# Altium footprint library Connector_Phoenix_MSTB.PcbLib: 180 footprints (part 4 of 12)
Each footprint in its own frame and in the unit in brackets; x right, y up, seen from the top. Pads: shape width x height; smd on the part's side, far side on the other; paste and mask are expansions set on the pad; w line width, h text height; cw(c..) or ccw(c..) is an arc to the next point about the centre after c.
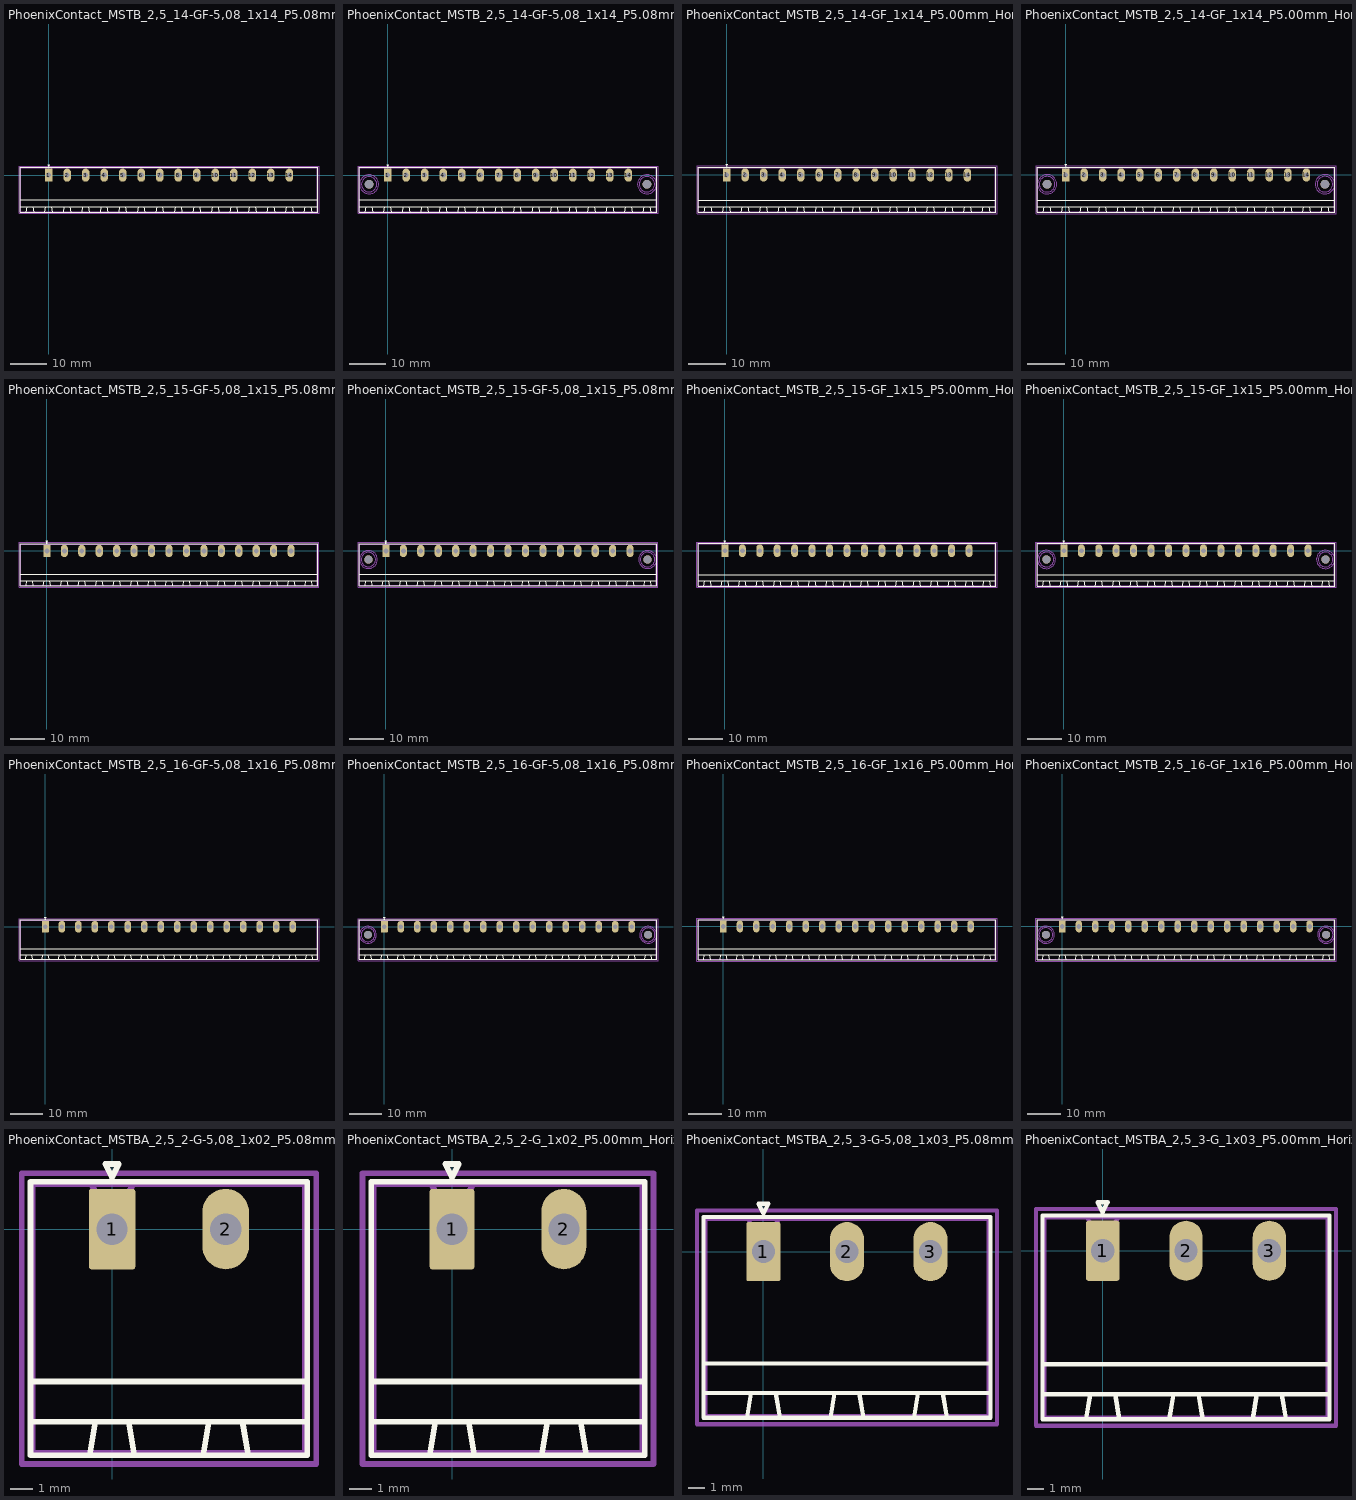
[diagram p3: the footprints below, top view; thin cyan lines are the x and y axes]

## PhoenixContact_MSTB_2,5_14-GF-5,08_1x14_P5.08mm_Horizontal_ThreadedFlange [mm]
pads (14):
  rrect12% 2.08x3.6 hole 1.4: 1(0,0)
  rrect100% 2.08x3.6 hole 1.4: 2(5.08,0) 3(10.16,0) 4(15.24,0) 5(20.32,0) 6(25.4,0) 7(30.48,0) 8(35.56,0) 9(40.64,0) 10(45.72,0) 11(50.8,0) 12(55.88,0) 13(60.96,0) 14(66.04,0)
F.SilkS:
  lines w0.254: -7.73,-10.11 73.77,-10.11 73.77,2.11 -7.73,2.11 -7.73,-10.11 ; -7.73,-8.61 73.77,-8.61 73.77,-6.81 -7.73,-6.81 -7.73,-8.61 ; -6.08,-10.11 -5.83,-8.61 -4.33,-8.61 -4.08,-10.11 -6.08,-10.11 ; -1,-10.11 -0.75,-8.61 0.75,-8.61 1,-10.11 -1,-10.11 ; -0.3,2.91 0,2.31 0.3,2.91 -0.3,2.91 ; 4.08,-10.11 4.33,-8.61 5.83,-8.61 6.08,-10.11 4.08,-10.11 ; 9.16,-10.11 9.41,-8.61 10.91,-8.61 11.16,-10.11 9.16,-10.11 ; 14.24,-10.11 14.49,-8.61 15.99,-8.61 16.24,-10.11 14.24,-10.11 ; 19.32,-10.11 19.57,-8.61 21.07,-8.61 21.32,-10.11 19.32,-10.11 ; 24.4,-10.11 24.65,-8.61 26.15,-8.61 26.4,-10.11 24.4,-10.11 ; 29.48,-10.11 29.73,-8.61 31.23,-8.61 31.48,-10.11 29.48,-10.11 ; 34.56,-10.11 34.81,-8.61 36.31,-8.61 36.56,-10.11 34.56,-10.11 ; 39.64,-10.11 39.89,-8.61 41.39,-8.61 41.64,-10.11 39.64,-10.11 ; 44.72,-10.11 44.97,-8.61 46.47,-8.61 46.72,-10.11 44.72,-10.11 ; 49.8,-10.11 50.05,-8.61 51.55,-8.61 51.8,-10.11 49.8,-10.11 ; 54.88,-10.11 55.13,-8.61 56.63,-8.61 56.88,-10.11 54.88,-10.11 ; 59.96,-10.11 60.21,-8.61 61.71,-8.61 61.96,-10.11 59.96,-10.11 ; 65.04,-10.11 65.29,-8.61 66.79,-8.61 67.04,-10.11 65.04,-10.11 ; 70.12,-10.11 70.37,-8.61 71.87,-8.61 72.12,-10.11 70.12,-10.11
Top Assembly:
  lines w0.254: -0.95,2 0,0.5 0.95,2 ; -7.62,-10 73.66,-10 73.66,2 -7.62,2 -7.62,-10
  text "'.Designator'" at 28.973,0.46 h1
Top Courtyard:
  lines w0.254: -8.13,-10.5 74.16,-10.5 74.16,2.5 -8.13,2.5 -8.13,-10.5
Top Designator:
  text ".Designator" at 25.397,-4.303 h1.52

## PhoenixContact_MSTB_2,5_14-GF-5,08_1x14_P5.08mm_Horizontal_ThreadedFlange_MountHole [mm]
pads (16):
  rrect12% 2.08x3.6 hole 1.4: 1(0,0)
  rrect100% 2.08x3.6 hole 1.4: 2(5.08,0) 3(10.16,0) 4(15.24,0) 5(20.32,0) 6(25.4,0) 7(30.48,0) 8(35.56,0) 9(40.64,0) 10(45.72,0) 11(50.8,0) 12(55.88,0) 13(60.96,0) 14(66.04,0)
  round 2.4 hole 2.4: Un1(-5.08,-2.5) Un2(71.12,-2.5)
F.SilkS:
  lines w0.254: -7.73,-10.11 73.77,-10.11 73.77,2.11 -7.73,2.11 -7.73,-10.11 ; -7.73,-8.61 73.77,-8.61 73.77,-6.81 -7.73,-6.81 -7.73,-8.61 ; -6.08,-10.11 -5.83,-8.61 -4.33,-8.61 -4.08,-10.11 -6.08,-10.11 ; -1,-10.11 -0.75,-8.61 0.75,-8.61 1,-10.11 -1,-10.11 ; -0.3,2.91 0,2.31 0.3,2.91 -0.3,2.91 ; 4.08,-10.11 4.33,-8.61 5.83,-8.61 6.08,-10.11 4.08,-10.11 ; 9.16,-10.11 9.41,-8.61 10.91,-8.61 11.16,-10.11 9.16,-10.11 ; 14.24,-10.11 14.49,-8.61 15.99,-8.61 16.24,-10.11 14.24,-10.11 ; 19.32,-10.11 19.57,-8.61 21.07,-8.61 21.32,-10.11 19.32,-10.11 ; 24.4,-10.11 24.65,-8.61 26.15,-8.61 26.4,-10.11 24.4,-10.11 ; 29.48,-10.11 29.73,-8.61 31.23,-8.61 31.48,-10.11 29.48,-10.11 ; 34.56,-10.11 34.81,-8.61 36.31,-8.61 36.56,-10.11 34.56,-10.11 ; 39.64,-10.11 39.89,-8.61 41.39,-8.61 41.64,-10.11 39.64,-10.11 ; 44.72,-10.11 44.97,-8.61 46.47,-8.61 46.72,-10.11 44.72,-10.11 ; 49.8,-10.11 50.05,-8.61 51.55,-8.61 51.8,-10.11 49.8,-10.11 ; 54.88,-10.11 55.13,-8.61 56.63,-8.61 56.88,-10.11 54.88,-10.11 ; 59.96,-10.11 60.21,-8.61 61.71,-8.61 61.96,-10.11 59.96,-10.11 ; 65.04,-10.11 65.29,-8.61 66.79,-8.61 67.04,-10.11 65.04,-10.11 ; 70.12,-10.11 70.37,-8.61 71.87,-8.61 72.12,-10.11 70.12,-10.11
B.SilkS:
  circle w0.254: c71.12,-2.5 r2.21
  circle w0.254: c-5.08,-2.5 r2.21
Top Assembly:
  lines w0.254: -0.95,2 0,0.5 0.95,2 ; -7.62,-10 73.66,-10 73.66,2 -7.62,2 -7.62,-10
  text "'.Designator'" at 28.973,0.46 h1
Bottom Assembly:
  circle w0.254: c71.12,-2.5 r2.1
  circle w0.254: c-5.08,-2.5 r2.1
Top Courtyard:
  lines w0.254: -8.13,-10.5 74.16,-10.5 74.16,2.5 -8.13,2.5 -8.13,-10.5
Bottom Courtyard:
  circle w0.254: c71.12,-2.5 r2.6
  circle w0.254: c-5.08,-2.5 r2.6
Top Designator:
  text ".Designator" at 25.397,-4.303 h1.52

## PhoenixContact_MSTB_2,5_14-GF_1x14_P5.00mm_Horizontal_ThreadedFlange [mm]
pads (14):
  rrect12% 2x3.6 hole 1.4: 1(0,0)
  rrect100% 2x3.6 hole 1.4: 2(5,0) 3(10,0) 4(15,0) 5(20,0) 6(25,0) 7(30,0) 8(35,0) 9(40,0) 10(45,0) 11(50,0) 12(55,0) 13(60,0) 14(65,0)
F.SilkS:
  lines w0.254: -7.61,-10.11 72.61,-10.11 72.61,2.11 -7.61,2.11 -7.61,-10.11 ; -7.61,-8.61 72.61,-8.61 72.61,-6.81 -7.61,-6.81 -7.61,-8.61 ; -6,-10.11 -5.75,-8.61 -4.25,-8.61 -4,-10.11 -6,-10.11 ; -1,-10.11 -0.75,-8.61 0.75,-8.61 1,-10.11 -1,-10.11 ; -0.3,2.91 0,2.31 0.3,2.91 -0.3,2.91 ; 4,-10.11 4.25,-8.61 5.75,-8.61 6,-10.11 4,-10.11 ; 9,-10.11 9.25,-8.61 10.75,-8.61 11,-10.11 9,-10.11 ; 14,-10.11 14.25,-8.61 15.75,-8.61 16,-10.11 14,-10.11 ; 19,-10.11 19.25,-8.61 20.75,-8.61 21,-10.11 19,-10.11 ; 24,-10.11 24.25,-8.61 25.75,-8.61 26,-10.11 24,-10.11 ; 29,-10.11 29.25,-8.61 30.75,-8.61 31,-10.11 29,-10.11 ; 34,-10.11 34.25,-8.61 35.75,-8.61 36,-10.11 34,-10.11 ; 39,-10.11 39.25,-8.61 40.75,-8.61 41,-10.11 39,-10.11 ; 44,-10.11 44.25,-8.61 45.75,-8.61 46,-10.11 44,-10.11 ; 49,-10.11 49.25,-8.61 50.75,-8.61 51,-10.11 49,-10.11 ; 54,-10.11 54.25,-8.61 55.75,-8.61 56,-10.11 54,-10.11 ; 59,-10.11 59.25,-8.61 60.75,-8.61 61,-10.11 59,-10.11 ; 64,-10.11 64.25,-8.61 65.75,-8.61 66,-10.11 64,-10.11 ; 69,-10.11 69.25,-8.61 70.75,-8.61 71,-10.11 69,-10.11
Top Assembly:
  lines w0.254: -0.95,2 0,0.5 0.95,2 ; -7.5,-10 72.5,-10 72.5,2 -7.5,2 -7.5,-10
  text "'.Designator'" at 28.453,0.46 h1
Top Courtyard:
  lines w0.254: -8,-10.5 73,-10.5 73,2.5 -8,2.5 -8,-10.5
Top Designator:
  text ".Designator" at 24.882,-4.303 h1.52

## PhoenixContact_MSTB_2,5_14-GF_1x14_P5.00mm_Horizontal_ThreadedFlange_MountHole [mm]
pads (16):
  rrect12% 2x3.6 hole 1.4: 1(0,0)
  rrect100% 2x3.6 hole 1.4: 2(5,0) 3(10,0) 4(15,0) 5(20,0) 6(25,0) 7(30,0) 8(35,0) 9(40,0) 10(45,0) 11(50,0) 12(55,0) 13(60,0) 14(65,0)
  round 2.4 hole 2.4: Un1(-5,-2.5) Un2(70,-2.5)
F.SilkS:
  lines w0.254: -7.61,-10.11 72.61,-10.11 72.61,2.11 -7.61,2.11 -7.61,-10.11 ; -7.61,-8.61 72.61,-8.61 72.61,-6.81 -7.61,-6.81 -7.61,-8.61 ; -6,-10.11 -5.75,-8.61 -4.25,-8.61 -4,-10.11 -6,-10.11 ; -1,-10.11 -0.75,-8.61 0.75,-8.61 1,-10.11 -1,-10.11 ; -0.3,2.91 0,2.31 0.3,2.91 -0.3,2.91 ; 4,-10.11 4.25,-8.61 5.75,-8.61 6,-10.11 4,-10.11 ; 9,-10.11 9.25,-8.61 10.75,-8.61 11,-10.11 9,-10.11 ; 14,-10.11 14.25,-8.61 15.75,-8.61 16,-10.11 14,-10.11 ; 19,-10.11 19.25,-8.61 20.75,-8.61 21,-10.11 19,-10.11 ; 24,-10.11 24.25,-8.61 25.75,-8.61 26,-10.11 24,-10.11 ; 29,-10.11 29.25,-8.61 30.75,-8.61 31,-10.11 29,-10.11 ; 34,-10.11 34.25,-8.61 35.75,-8.61 36,-10.11 34,-10.11 ; 39,-10.11 39.25,-8.61 40.75,-8.61 41,-10.11 39,-10.11 ; 44,-10.11 44.25,-8.61 45.75,-8.61 46,-10.11 44,-10.11 ; 49,-10.11 49.25,-8.61 50.75,-8.61 51,-10.11 49,-10.11 ; 54,-10.11 54.25,-8.61 55.75,-8.61 56,-10.11 54,-10.11 ; 59,-10.11 59.25,-8.61 60.75,-8.61 61,-10.11 59,-10.11 ; 64,-10.11 64.25,-8.61 65.75,-8.61 66,-10.11 64,-10.11 ; 69,-10.11 69.25,-8.61 70.75,-8.61 71,-10.11 69,-10.11
B.SilkS:
  circle w0.254: c70,-2.5 r2.21
  circle w0.254: c-5,-2.5 r2.21
Top Assembly:
  lines w0.254: -0.95,2 0,0.5 0.95,2 ; -7.5,-10 72.5,-10 72.5,2 -7.5,2 -7.5,-10
  text "'.Designator'" at 28.453,0.46 h1
Bottom Assembly:
  circle w0.254: c70,-2.5 r2.1
  circle w0.254: c-5,-2.5 r2.1
Top Courtyard:
  lines w0.254: -8,-10.5 73,-10.5 73,2.5 -8,2.5 -8,-10.5
Bottom Courtyard:
  circle w0.254: c70,-2.5 r2.6
  circle w0.254: c-5,-2.5 r2.6
Top Designator:
  text ".Designator" at 24.882,-4.303 h1.52

## PhoenixContact_MSTB_2,5_15-GF-5,08_1x15_P5.08mm_Horizontal_ThreadedFlange [mm]
pads (15):
  rrect12% 2.08x3.6 hole 1.4: 1(0,0)
  rrect100% 2.08x3.6 hole 1.4: 2(5.08,0) 3(10.16,0) 4(15.24,0) 5(20.32,0) 6(25.4,0) 7(30.48,0) 8(35.56,0) 9(40.64,0) 10(45.72,0) 11(50.8,0) 12(55.88,0) 13(60.96,0) 14(66.04,0) 15(71.12,0)
F.SilkS:
  lines w0.254: -7.73,-10.11 78.85,-10.11 78.85,2.11 -7.73,2.11 -7.73,-10.11 ; -7.73,-8.61 78.85,-8.61 78.85,-6.81 -7.73,-6.81 -7.73,-8.61 ; -6.08,-10.11 -5.83,-8.61 -4.33,-8.61 -4.08,-10.11 -6.08,-10.11 ; -1,-10.11 -0.75,-8.61 0.75,-8.61 1,-10.11 -1,-10.11 ; -0.3,2.91 0,2.31 0.3,2.91 -0.3,2.91 ; 4.08,-10.11 4.33,-8.61 5.83,-8.61 6.08,-10.11 4.08,-10.11 ; 9.16,-10.11 9.41,-8.61 10.91,-8.61 11.16,-10.11 9.16,-10.11 ; 14.24,-10.11 14.49,-8.61 15.99,-8.61 16.24,-10.11 14.24,-10.11 ; 19.32,-10.11 19.57,-8.61 21.07,-8.61 21.32,-10.11 19.32,-10.11 ; 24.4,-10.11 24.65,-8.61 26.15,-8.61 26.4,-10.11 24.4,-10.11 ; 29.48,-10.11 29.73,-8.61 31.23,-8.61 31.48,-10.11 29.48,-10.11 ; 34.56,-10.11 34.81,-8.61 36.31,-8.61 36.56,-10.11 34.56,-10.11 ; 39.64,-10.11 39.89,-8.61 41.39,-8.61 41.64,-10.11 39.64,-10.11 ; 44.72,-10.11 44.97,-8.61 46.47,-8.61 46.72,-10.11 44.72,-10.11 ; 49.8,-10.11 50.05,-8.61 51.55,-8.61 51.8,-10.11 49.8,-10.11 ; 54.88,-10.11 55.13,-8.61 56.63,-8.61 56.88,-10.11 54.88,-10.11 ; 59.96,-10.11 60.21,-8.61 61.71,-8.61 61.96,-10.11 59.96,-10.11 ; 65.04,-10.11 65.29,-8.61 66.79,-8.61 67.04,-10.11 65.04,-10.11 ; 70.12,-10.11 70.37,-8.61 71.87,-8.61 72.12,-10.11 70.12,-10.11 ; 75.2,-10.11 75.45,-8.61 76.95,-8.61 77.2,-10.11 75.2,-10.11
Top Assembly:
  lines w0.254: -0.95,2 0,0.5 0.95,2 ; -7.62,-10 78.74,-10 78.74,2 -7.62,2 -7.62,-10
  text "'.Designator'" at 31.513,0.46 h1
Top Courtyard:
  lines w0.254: -8.13,-10.5 79.24,-10.5 79.24,2.5 -8.13,2.5 -8.13,-10.5
Top Designator:
  text ".Designator" at 27.937,-4.303 h1.52

## PhoenixContact_MSTB_2,5_15-GF-5,08_1x15_P5.08mm_Horizontal_ThreadedFlange_MountHole [mm]
pads (17):
  rrect12% 2.08x3.6 hole 1.4: 1(0,0)
  rrect100% 2.08x3.6 hole 1.4: 2(5.08,0) 3(10.16,0) 4(15.24,0) 5(20.32,0) 6(25.4,0) 7(30.48,0) 8(35.56,0) 9(40.64,0) 10(45.72,0) 11(50.8,0) 12(55.88,0) 13(60.96,0) 14(66.04,0) 15(71.12,0)
  round 2.4 hole 2.4: Un1(-5.08,-2.5) Un2(76.2,-2.5)
F.SilkS:
  lines w0.254: -7.73,-10.11 78.85,-10.11 78.85,2.11 -7.73,2.11 -7.73,-10.11 ; -7.73,-8.61 78.85,-8.61 78.85,-6.81 -7.73,-6.81 -7.73,-8.61 ; -6.08,-10.11 -5.83,-8.61 -4.33,-8.61 -4.08,-10.11 -6.08,-10.11 ; -1,-10.11 -0.75,-8.61 0.75,-8.61 1,-10.11 -1,-10.11 ; -0.3,2.91 0,2.31 0.3,2.91 -0.3,2.91 ; 4.08,-10.11 4.33,-8.61 5.83,-8.61 6.08,-10.11 4.08,-10.11 ; 9.16,-10.11 9.41,-8.61 10.91,-8.61 11.16,-10.11 9.16,-10.11 ; 14.24,-10.11 14.49,-8.61 15.99,-8.61 16.24,-10.11 14.24,-10.11 ; 19.32,-10.11 19.57,-8.61 21.07,-8.61 21.32,-10.11 19.32,-10.11 ; 24.4,-10.11 24.65,-8.61 26.15,-8.61 26.4,-10.11 24.4,-10.11 ; 29.48,-10.11 29.73,-8.61 31.23,-8.61 31.48,-10.11 29.48,-10.11 ; 34.56,-10.11 34.81,-8.61 36.31,-8.61 36.56,-10.11 34.56,-10.11 ; 39.64,-10.11 39.89,-8.61 41.39,-8.61 41.64,-10.11 39.64,-10.11 ; 44.72,-10.11 44.97,-8.61 46.47,-8.61 46.72,-10.11 44.72,-10.11 ; 49.8,-10.11 50.05,-8.61 51.55,-8.61 51.8,-10.11 49.8,-10.11 ; 54.88,-10.11 55.13,-8.61 56.63,-8.61 56.88,-10.11 54.88,-10.11 ; 59.96,-10.11 60.21,-8.61 61.71,-8.61 61.96,-10.11 59.96,-10.11 ; 65.04,-10.11 65.29,-8.61 66.79,-8.61 67.04,-10.11 65.04,-10.11 ; 70.12,-10.11 70.37,-8.61 71.87,-8.61 72.12,-10.11 70.12,-10.11 ; 75.2,-10.11 75.45,-8.61 76.95,-8.61 77.2,-10.11 75.2,-10.11
B.SilkS:
  circle w0.254: c76.2,-2.5 r2.21
  circle w0.254: c-5.08,-2.5 r2.21
Top Assembly:
  lines w0.254: -0.95,2 0,0.5 0.95,2 ; -7.62,-10 78.74,-10 78.74,2 -7.62,2 -7.62,-10
  text "'.Designator'" at 31.513,0.46 h1
Bottom Assembly:
  circle w0.254: c76.2,-2.5 r2.1
  circle w0.254: c-5.08,-2.5 r2.1
Top Courtyard:
  lines w0.254: -8.13,-10.5 79.24,-10.5 79.24,2.5 -8.13,2.5 -8.13,-10.5
Bottom Courtyard:
  circle w0.254: c76.2,-2.5 r2.6
  circle w0.254: c-5.08,-2.5 r2.6
Top Designator:
  text ".Designator" at 27.937,-4.303 h1.52

## PhoenixContact_MSTB_2,5_15-GF_1x15_P5.00mm_Horizontal_ThreadedFlange [mm]
pads (15):
  rrect12% 2x3.6 hole 1.4: 1(0,0)
  rrect100% 2x3.6 hole 1.4: 2(5,0) 3(10,0) 4(15,0) 5(20,0) 6(25,0) 7(30,0) 8(35,0) 9(40,0) 10(45,0) 11(50,0) 12(55,0) 13(60,0) 14(65,0) 15(70,0)
F.SilkS:
  lines w0.254: -7.61,-10.11 77.61,-10.11 77.61,2.11 -7.61,2.11 -7.61,-10.11 ; -7.61,-8.61 77.61,-8.61 77.61,-6.81 -7.61,-6.81 -7.61,-8.61 ; -6,-10.11 -5.75,-8.61 -4.25,-8.61 -4,-10.11 -6,-10.11 ; -1,-10.11 -0.75,-8.61 0.75,-8.61 1,-10.11 -1,-10.11 ; -0.3,2.91 0,2.31 0.3,2.91 -0.3,2.91 ; 4,-10.11 4.25,-8.61 5.75,-8.61 6,-10.11 4,-10.11 ; 9,-10.11 9.25,-8.61 10.75,-8.61 11,-10.11 9,-10.11 ; 14,-10.11 14.25,-8.61 15.75,-8.61 16,-10.11 14,-10.11 ; 19,-10.11 19.25,-8.61 20.75,-8.61 21,-10.11 19,-10.11 ; 24,-10.11 24.25,-8.61 25.75,-8.61 26,-10.11 24,-10.11 ; 29,-10.11 29.25,-8.61 30.75,-8.61 31,-10.11 29,-10.11 ; 34,-10.11 34.25,-8.61 35.75,-8.61 36,-10.11 34,-10.11 ; 39,-10.11 39.25,-8.61 40.75,-8.61 41,-10.11 39,-10.11 ; 44,-10.11 44.25,-8.61 45.75,-8.61 46,-10.11 44,-10.11 ; 49,-10.11 49.25,-8.61 50.75,-8.61 51,-10.11 49,-10.11 ; 54,-10.11 54.25,-8.61 55.75,-8.61 56,-10.11 54,-10.11 ; 59,-10.11 59.25,-8.61 60.75,-8.61 61,-10.11 59,-10.11 ; 64,-10.11 64.25,-8.61 65.75,-8.61 66,-10.11 64,-10.11 ; 69,-10.11 69.25,-8.61 70.75,-8.61 71,-10.11 69,-10.11 ; 74,-10.11 74.25,-8.61 75.75,-8.61 76,-10.11 74,-10.11
Top Assembly:
  lines w0.254: -0.95,2 0,0.5 0.95,2 ; -7.5,-10 77.5,-10 77.5,2 -7.5,2 -7.5,-10
  text "'.Designator'" at 30.953,0.46 h1
Top Courtyard:
  lines w0.254: -8,-10.5 78,-10.5 78,2.5 -8,2.5 -8,-10.5
Top Designator:
  text ".Designator" at 27.382,-4.303 h1.52

## PhoenixContact_MSTB_2,5_15-GF_1x15_P5.00mm_Horizontal_ThreadedFlange_MountHole [mm]
pads (17):
  rrect12% 2x3.6 hole 1.4: 1(0,0)
  rrect100% 2x3.6 hole 1.4: 2(5,0) 3(10,0) 4(15,0) 5(20,0) 6(25,0) 7(30,0) 8(35,0) 9(40,0) 10(45,0) 11(50,0) 12(55,0) 13(60,0) 14(65,0) 15(70,0)
  round 2.4 hole 2.4: Un1(-5,-2.5) Un2(75,-2.5)
F.SilkS:
  lines w0.254: -7.61,-10.11 77.61,-10.11 77.61,2.11 -7.61,2.11 -7.61,-10.11 ; -7.61,-8.61 77.61,-8.61 77.61,-6.81 -7.61,-6.81 -7.61,-8.61 ; -6,-10.11 -5.75,-8.61 -4.25,-8.61 -4,-10.11 -6,-10.11 ; -1,-10.11 -0.75,-8.61 0.75,-8.61 1,-10.11 -1,-10.11 ; -0.3,2.91 0,2.31 0.3,2.91 -0.3,2.91 ; 4,-10.11 4.25,-8.61 5.75,-8.61 6,-10.11 4,-10.11 ; 9,-10.11 9.25,-8.61 10.75,-8.61 11,-10.11 9,-10.11 ; 14,-10.11 14.25,-8.61 15.75,-8.61 16,-10.11 14,-10.11 ; 19,-10.11 19.25,-8.61 20.75,-8.61 21,-10.11 19,-10.11 ; 24,-10.11 24.25,-8.61 25.75,-8.61 26,-10.11 24,-10.11 ; 29,-10.11 29.25,-8.61 30.75,-8.61 31,-10.11 29,-10.11 ; 34,-10.11 34.25,-8.61 35.75,-8.61 36,-10.11 34,-10.11 ; 39,-10.11 39.25,-8.61 40.75,-8.61 41,-10.11 39,-10.11 ; 44,-10.11 44.25,-8.61 45.75,-8.61 46,-10.11 44,-10.11 ; 49,-10.11 49.25,-8.61 50.75,-8.61 51,-10.11 49,-10.11 ; 54,-10.11 54.25,-8.61 55.75,-8.61 56,-10.11 54,-10.11 ; 59,-10.11 59.25,-8.61 60.75,-8.61 61,-10.11 59,-10.11 ; 64,-10.11 64.25,-8.61 65.75,-8.61 66,-10.11 64,-10.11 ; 69,-10.11 69.25,-8.61 70.75,-8.61 71,-10.11 69,-10.11 ; 74,-10.11 74.25,-8.61 75.75,-8.61 76,-10.11 74,-10.11
B.SilkS:
  circle w0.254: c75,-2.5 r2.21
  circle w0.254: c-5,-2.5 r2.21
Top Assembly:
  lines w0.254: -0.95,2 0,0.5 0.95,2 ; -7.5,-10 77.5,-10 77.5,2 -7.5,2 -7.5,-10
  text "'.Designator'" at 30.953,0.46 h1
Bottom Assembly:
  circle w0.254: c75,-2.5 r2.1
  circle w0.254: c-5,-2.5 r2.1
Top Courtyard:
  lines w0.254: -8,-10.5 78,-10.5 78,2.5 -8,2.5 -8,-10.5
Bottom Courtyard:
  circle w0.254: c75,-2.5 r2.6
  circle w0.254: c-5,-2.5 r2.6
Top Designator:
  text ".Designator" at 27.382,-4.303 h1.52

## PhoenixContact_MSTB_2,5_16-GF-5,08_1x16_P5.08mm_Horizontal_ThreadedFlange [mm]
pads (16):
  rrect12% 2.08x3.6 hole 1.4: 1(0,0)
  rrect100% 2.08x3.6 hole 1.4: 2(5.08,0) 3(10.16,0) 4(15.24,0) 5(20.32,0) 6(25.4,0) 7(30.48,0) 8(35.56,0) 9(40.64,0) 10(45.72,0) 11(50.8,0) 12(55.88,0) 13(60.96,0) 14(66.04,0) 15(71.12,0) 16(76.2,0)
F.SilkS:
  lines w0.254: -7.73,-10.11 83.93,-10.11 83.93,2.11 -7.73,2.11 -7.73,-10.11 ; -7.73,-8.61 83.93,-8.61 83.93,-6.81 -7.73,-6.81 -7.73,-8.61 ; -6.08,-10.11 -5.83,-8.61 -4.33,-8.61 -4.08,-10.11 -6.08,-10.11 ; -1,-10.11 -0.75,-8.61 0.75,-8.61 1,-10.11 -1,-10.11 ; -0.3,2.91 0,2.31 0.3,2.91 -0.3,2.91 ; 4.08,-10.11 4.33,-8.61 5.83,-8.61 6.08,-10.11 4.08,-10.11 ; 9.16,-10.11 9.41,-8.61 10.91,-8.61 11.16,-10.11 9.16,-10.11 ; 14.24,-10.11 14.49,-8.61 15.99,-8.61 16.24,-10.11 14.24,-10.11 ; 19.32,-10.11 19.57,-8.61 21.07,-8.61 21.32,-10.11 19.32,-10.11 ; 24.4,-10.11 24.65,-8.61 26.15,-8.61 26.4,-10.11 24.4,-10.11 ; 29.48,-10.11 29.73,-8.61 31.23,-8.61 31.48,-10.11 29.48,-10.11 ; 34.56,-10.11 34.81,-8.61 36.31,-8.61 36.56,-10.11 34.56,-10.11 ; 39.64,-10.11 39.89,-8.61 41.39,-8.61 41.64,-10.11 39.64,-10.11 ; 44.72,-10.11 44.97,-8.61 46.47,-8.61 46.72,-10.11 44.72,-10.11 ; 49.8,-10.11 50.05,-8.61 51.55,-8.61 51.8,-10.11 49.8,-10.11 ; 54.88,-10.11 55.13,-8.61 56.63,-8.61 56.88,-10.11 54.88,-10.11 ; 59.96,-10.11 60.21,-8.61 61.71,-8.61 61.96,-10.11 59.96,-10.11 ; 65.04,-10.11 65.29,-8.61 66.79,-8.61 67.04,-10.11 65.04,-10.11 ; 70.12,-10.11 70.37,-8.61 71.87,-8.61 72.12,-10.11 70.12,-10.11 ; 75.2,-10.11 75.45,-8.61 76.95,-8.61 77.2,-10.11 75.2,-10.11 ; 80.28,-10.11 80.53,-8.61 82.03,-8.61 82.28,-10.11 80.28,-10.11
Top Assembly:
  lines w0.254: -0.95,2 0,0.5 0.95,2 ; -7.62,-10 83.82,-10 83.82,2 -7.62,2 -7.62,-10
  text "'.Designator'" at 34.053,0.46 h1
Top Courtyard:
  lines w0.254: -8.13,-10.5 84.32,-10.5 84.32,2.5 -8.13,2.5 -8.13,-10.5
Top Designator:
  text ".Designator" at 30.477,-4.303 h1.52

## PhoenixContact_MSTB_2,5_16-GF-5,08_1x16_P5.08mm_Horizontal_ThreadedFlange_MountHole [mm]
pads (18):
  rrect12% 2.08x3.6 hole 1.4: 1(0,0)
  rrect100% 2.08x3.6 hole 1.4: 2(5.08,0) 3(10.16,0) 4(15.24,0) 5(20.32,0) 6(25.4,0) 7(30.48,0) 8(35.56,0) 9(40.64,0) 10(45.72,0) 11(50.8,0) 12(55.88,0) 13(60.96,0) 14(66.04,0) 15(71.12,0) 16(76.2,0)
  round 2.4 hole 2.4: Un1(-5.08,-2.5) Un2(81.28,-2.5)
F.SilkS:
  lines w0.254: -7.73,-10.11 83.93,-10.11 83.93,2.11 -7.73,2.11 -7.73,-10.11 ; -7.73,-8.61 83.93,-8.61 83.93,-6.81 -7.73,-6.81 -7.73,-8.61 ; -6.08,-10.11 -5.83,-8.61 -4.33,-8.61 -4.08,-10.11 -6.08,-10.11 ; -1,-10.11 -0.75,-8.61 0.75,-8.61 1,-10.11 -1,-10.11 ; -0.3,2.91 0,2.31 0.3,2.91 -0.3,2.91 ; 4.08,-10.11 4.33,-8.61 5.83,-8.61 6.08,-10.11 4.08,-10.11 ; 9.16,-10.11 9.41,-8.61 10.91,-8.61 11.16,-10.11 9.16,-10.11 ; 14.24,-10.11 14.49,-8.61 15.99,-8.61 16.24,-10.11 14.24,-10.11 ; 19.32,-10.11 19.57,-8.61 21.07,-8.61 21.32,-10.11 19.32,-10.11 ; 24.4,-10.11 24.65,-8.61 26.15,-8.61 26.4,-10.11 24.4,-10.11 ; 29.48,-10.11 29.73,-8.61 31.23,-8.61 31.48,-10.11 29.48,-10.11 ; 34.56,-10.11 34.81,-8.61 36.31,-8.61 36.56,-10.11 34.56,-10.11 ; 39.64,-10.11 39.89,-8.61 41.39,-8.61 41.64,-10.11 39.64,-10.11 ; 44.72,-10.11 44.97,-8.61 46.47,-8.61 46.72,-10.11 44.72,-10.11 ; 49.8,-10.11 50.05,-8.61 51.55,-8.61 51.8,-10.11 49.8,-10.11 ; 54.88,-10.11 55.13,-8.61 56.63,-8.61 56.88,-10.11 54.88,-10.11 ; 59.96,-10.11 60.21,-8.61 61.71,-8.61 61.96,-10.11 59.96,-10.11 ; 65.04,-10.11 65.29,-8.61 66.79,-8.61 67.04,-10.11 65.04,-10.11 ; 70.12,-10.11 70.37,-8.61 71.87,-8.61 72.12,-10.11 70.12,-10.11 ; 75.2,-10.11 75.45,-8.61 76.95,-8.61 77.2,-10.11 75.2,-10.11 ; 80.28,-10.11 80.53,-8.61 82.03,-8.61 82.28,-10.11 80.28,-10.11
B.SilkS:
  circle w0.254: c81.28,-2.5 r2.21
  circle w0.254: c-5.08,-2.5 r2.21
Top Assembly:
  lines w0.254: -0.95,2 0,0.5 0.95,2 ; -7.62,-10 83.82,-10 83.82,2 -7.62,2 -7.62,-10
  text "'.Designator'" at 34.053,0.46 h1
Bottom Assembly:
  circle w0.254: c81.28,-2.5 r2.1
  circle w0.254: c-5.08,-2.5 r2.1
Top Courtyard:
  lines w0.254: -8.13,-10.5 84.32,-10.5 84.32,2.5 -8.13,2.5 -8.13,-10.5
Bottom Courtyard:
  circle w0.254: c81.28,-2.5 r2.6
  circle w0.254: c-5.08,-2.5 r2.6
Top Designator:
  text ".Designator" at 30.477,-4.303 h1.52

## PhoenixContact_MSTB_2,5_16-GF_1x16_P5.00mm_Horizontal_ThreadedFlange [mm]
pads (16):
  rrect12% 2x3.6 hole 1.4: 1(0,0)
  rrect100% 2x3.6 hole 1.4: 2(5,0) 3(10,0) 4(15,0) 5(20,0) 6(25,0) 7(30,0) 8(35,0) 9(40,0) 10(45,0) 11(50,0) 12(55,0) 13(60,0) 14(65,0) 15(70,0) 16(75,0)
F.SilkS:
  lines w0.254: -7.61,-10.11 82.61,-10.11 82.61,2.11 -7.61,2.11 -7.61,-10.11 ; -7.61,-8.61 82.61,-8.61 82.61,-6.81 -7.61,-6.81 -7.61,-8.61 ; -6,-10.11 -5.75,-8.61 -4.25,-8.61 -4,-10.11 -6,-10.11 ; -1,-10.11 -0.75,-8.61 0.75,-8.61 1,-10.11 -1,-10.11 ; -0.3,2.91 0,2.31 0.3,2.91 -0.3,2.91 ; 4,-10.11 4.25,-8.61 5.75,-8.61 6,-10.11 4,-10.11 ; 9,-10.11 9.25,-8.61 10.75,-8.61 11,-10.11 9,-10.11 ; 14,-10.11 14.25,-8.61 15.75,-8.61 16,-10.11 14,-10.11 ; 19,-10.11 19.25,-8.61 20.75,-8.61 21,-10.11 19,-10.11 ; 24,-10.11 24.25,-8.61 25.75,-8.61 26,-10.11 24,-10.11 ; 29,-10.11 29.25,-8.61 30.75,-8.61 31,-10.11 29,-10.11 ; 34,-10.11 34.25,-8.61 35.75,-8.61 36,-10.11 34,-10.11 ; 39,-10.11 39.25,-8.61 40.75,-8.61 41,-10.11 39,-10.11 ; 44,-10.11 44.25,-8.61 45.75,-8.61 46,-10.11 44,-10.11 ; 49,-10.11 49.25,-8.61 50.75,-8.61 51,-10.11 49,-10.11 ; 54,-10.11 54.25,-8.61 55.75,-8.61 56,-10.11 54,-10.11 ; 59,-10.11 59.25,-8.61 60.75,-8.61 61,-10.11 59,-10.11 ; 64,-10.11 64.25,-8.61 65.75,-8.61 66,-10.11 64,-10.11 ; 69,-10.11 69.25,-8.61 70.75,-8.61 71,-10.11 69,-10.11 ; 74,-10.11 74.25,-8.61 75.75,-8.61 76,-10.11 74,-10.11 ; 79,-10.11 79.25,-8.61 80.75,-8.61 81,-10.11 79,-10.11
Top Assembly:
  lines w0.254: -0.95,2 0,0.5 0.95,2 ; -7.5,-10 82.5,-10 82.5,2 -7.5,2 -7.5,-10
  text "'.Designator'" at 33.453,0.46 h1
Top Courtyard:
  lines w0.254: -8,-10.5 83,-10.5 83,2.5 -8,2.5 -8,-10.5
Top Designator:
  text ".Designator" at 29.882,-4.303 h1.52

## PhoenixContact_MSTB_2,5_16-GF_1x16_P5.00mm_Horizontal_ThreadedFlange_MountHole [mm]
pads (18):
  rrect12% 2x3.6 hole 1.4: 1(0,0)
  rrect100% 2x3.6 hole 1.4: 2(5,0) 3(10,0) 4(15,0) 5(20,0) 6(25,0) 7(30,0) 8(35,0) 9(40,0) 10(45,0) 11(50,0) 12(55,0) 13(60,0) 14(65,0) 15(70,0) 16(75,0)
  round 2.4 hole 2.4: Un1(-5,-2.5) Un2(80,-2.5)
F.SilkS:
  lines w0.254: -7.61,-10.11 82.61,-10.11 82.61,2.11 -7.61,2.11 -7.61,-10.11 ; -7.61,-8.61 82.61,-8.61 82.61,-6.81 -7.61,-6.81 -7.61,-8.61 ; -6,-10.11 -5.75,-8.61 -4.25,-8.61 -4,-10.11 -6,-10.11 ; -1,-10.11 -0.75,-8.61 0.75,-8.61 1,-10.11 -1,-10.11 ; -0.3,2.91 0,2.31 0.3,2.91 -0.3,2.91 ; 4,-10.11 4.25,-8.61 5.75,-8.61 6,-10.11 4,-10.11 ; 9,-10.11 9.25,-8.61 10.75,-8.61 11,-10.11 9,-10.11 ; 14,-10.11 14.25,-8.61 15.75,-8.61 16,-10.11 14,-10.11 ; 19,-10.11 19.25,-8.61 20.75,-8.61 21,-10.11 19,-10.11 ; 24,-10.11 24.25,-8.61 25.75,-8.61 26,-10.11 24,-10.11 ; 29,-10.11 29.25,-8.61 30.75,-8.61 31,-10.11 29,-10.11 ; 34,-10.11 34.25,-8.61 35.75,-8.61 36,-10.11 34,-10.11 ; 39,-10.11 39.25,-8.61 40.75,-8.61 41,-10.11 39,-10.11 ; 44,-10.11 44.25,-8.61 45.75,-8.61 46,-10.11 44,-10.11 ; 49,-10.11 49.25,-8.61 50.75,-8.61 51,-10.11 49,-10.11 ; 54,-10.11 54.25,-8.61 55.75,-8.61 56,-10.11 54,-10.11 ; 59,-10.11 59.25,-8.61 60.75,-8.61 61,-10.11 59,-10.11 ; 64,-10.11 64.25,-8.61 65.75,-8.61 66,-10.11 64,-10.11 ; 69,-10.11 69.25,-8.61 70.75,-8.61 71,-10.11 69,-10.11 ; 74,-10.11 74.25,-8.61 75.75,-8.61 76,-10.11 74,-10.11 ; 79,-10.11 79.25,-8.61 80.75,-8.61 81,-10.11 79,-10.11
B.SilkS:
  circle w0.254: c80,-2.5 r2.21
  circle w0.254: c-5,-2.5 r2.21
Top Assembly:
  lines w0.254: -0.95,2 0,0.5 0.95,2 ; -7.5,-10 82.5,-10 82.5,2 -7.5,2 -7.5,-10
  text "'.Designator'" at 33.453,0.46 h1
Bottom Assembly:
  circle w0.254: c80,-2.5 r2.1
  circle w0.254: c-5,-2.5 r2.1
Top Courtyard:
  lines w0.254: -8,-10.5 83,-10.5 83,2.5 -8,2.5 -8,-10.5
Bottom Courtyard:
  circle w0.254: c80,-2.5 r2.6
  circle w0.254: c-5,-2.5 r2.6
Top Designator:
  text ".Designator" at 29.882,-4.303 h1.52

## PhoenixContact_MSTBA_2,5_2-G-5,08_1x02_P5.08mm_Horizontal [mm]
pads (2):
  rrect12% 2.08x3.6 hole 1.4: 1(0,0)
  rrect100% 2.08x3.6 hole 1.4: 2(5.08,0)
F.SilkS:
  lines w0.254: -3.65,-10.11 8.73,-10.11 8.73,2.11 -3.65,2.11 -3.65,-10.11 ; -3.65,-8.61 8.73,-8.61 8.73,-6.81 -3.65,-6.81 -3.65,-8.61 ; -1,-10.11 -0.75,-8.61 0.75,-8.61 1,-10.11 -1,-10.11 ; -0.3,2.91 0,2.31 0.3,2.91 -0.3,2.91 ; 4.08,-10.11 4.33,-8.61 5.83,-8.61 6.08,-10.11 4.08,-10.11
Top Assembly:
  lines w0.254: -0.95,2 0,0.5 0.95,2 ; -3.54,-10 8.62,-10 8.62,2 -3.54,2 -3.54,-10
  text "'.Designator'" at -1.507,0.46 h1
Top Courtyard:
  lines w0.254: -4.04,-10.5 9.13,-10.5 9.13,2.5 -4.04,2.5 -4.04,-10.5
Top Designator:
  text ".Designator" at -5.073,-4.303 h1.52

## PhoenixContact_MSTBA_2,5_2-G_1x02_P5.00mm_Horizontal [mm]
pads (2):
  rrect12% 2x3.6 hole 1.4: 1(0,0)
  rrect100% 2x3.6 hole 1.4: 2(5,0)
F.SilkS:
  lines w0.254: -3.61,-10.11 8.61,-10.11 8.61,2.11 -3.61,2.11 -3.61,-10.11 ; -3.61,-8.61 8.61,-8.61 8.61,-6.81 -3.61,-6.81 -3.61,-8.61 ; -1,-10.11 -0.75,-8.61 0.75,-8.61 1,-10.11 -1,-10.11 ; -0.3,2.91 0,2.31 0.3,2.91 -0.3,2.91 ; 4,-10.11 4.25,-8.61 5.75,-8.61 6,-10.11 4,-10.11
Top Assembly:
  lines w0.254: -0.95,2 0,0.5 0.95,2 ; -3.5,-10 8.5,-10 8.5,2 -3.5,2 -3.5,-10
  text "'.Designator'" at -1.547,0.46 h1
Top Courtyard:
  lines w0.254: -4,-10.5 9,-10.5 9,2.5 -4,2.5 -4,-10.5
Top Designator:
  text ".Designator" at -5.118,-4.303 h1.52

## PhoenixContact_MSTBA_2,5_3-G-5,08_1x03_P5.08mm_Horizontal [mm]
pads (3):
  rrect12% 2.08x3.6 hole 1.4: 1(0,0)
  rrect100% 2.08x3.6 hole 1.4: 2(5.08,0) 3(10.16,0)
F.SilkS:
  lines w0.254: -3.65,-10.11 13.81,-10.11 13.81,2.11 -3.65,2.11 -3.65,-10.11 ; -3.65,-8.61 13.81,-8.61 13.81,-6.81 -3.65,-6.81 -3.65,-8.61 ; -1,-10.11 -0.75,-8.61 0.75,-8.61 1,-10.11 -1,-10.11 ; -0.3,2.91 0,2.31 0.3,2.91 -0.3,2.91 ; 4.08,-10.11 4.33,-8.61 5.83,-8.61 6.08,-10.11 4.08,-10.11 ; 9.16,-10.11 9.41,-8.61 10.91,-8.61 11.16,-10.11 9.16,-10.11
Top Assembly:
  lines w0.254: -0.95,2 0,0.5 0.95,2 ; -3.54,-10 13.7,-10 13.7,2 -3.54,2 -3.54,-10
  text "'.Designator'" at 1.033,0.46 h1
Top Courtyard:
  lines w0.254: -4.04,-10.5 14.21,-10.5 14.21,2.5 -4.04,2.5 -4.04,-10.5
Top Designator:
  text ".Designator" at -2.533,-4.303 h1.52

## PhoenixContact_MSTBA_2,5_3-G_1x03_P5.00mm_Horizontal [mm]
pads (3):
  rrect12% 2x3.6 hole 1.4: 1(0,0)
  rrect100% 2x3.6 hole 1.4: 2(5,0) 3(10,0)
F.SilkS:
  lines w0.254: -3.61,-10.11 13.61,-10.11 13.61,2.11 -3.61,2.11 -3.61,-10.11 ; -3.61,-8.61 13.61,-8.61 13.61,-6.81 -3.61,-6.81 -3.61,-8.61 ; -1,-10.11 -0.75,-8.61 0.75,-8.61 1,-10.11 -1,-10.11 ; -0.3,2.91 0,2.31 0.3,2.91 -0.3,2.91 ; 4,-10.11 4.25,-8.61 5.75,-8.61 6,-10.11 4,-10.11 ; 9,-10.11 9.25,-8.61 10.75,-8.61 11,-10.11 9,-10.11
Top Assembly:
  lines w0.254: -0.95,2 0,0.5 0.95,2 ; -3.5,-10 13.5,-10 13.5,2 -3.5,2 -3.5,-10
  text "'.Designator'" at 0.953,0.46 h1
Top Courtyard:
  lines w0.254: -4,-10.5 14,-10.5 14,2.5 -4,2.5 -4,-10.5
Top Designator:
  text ".Designator" at -2.618,-4.303 h1.52